# Altium footprint library LPSON_CON.PcbLib: 86 footprints (part 5 of 6)
Each footprint in its own frame and in the unit in brackets; x right, y up, seen from the top. Pads: shape width x height; smd on the part's side, far side on the other; paste and mask are expansions set on the pad; w line width, h text height; cw(c..) or ccw(c..) is an arc to the next point about the centre after c.
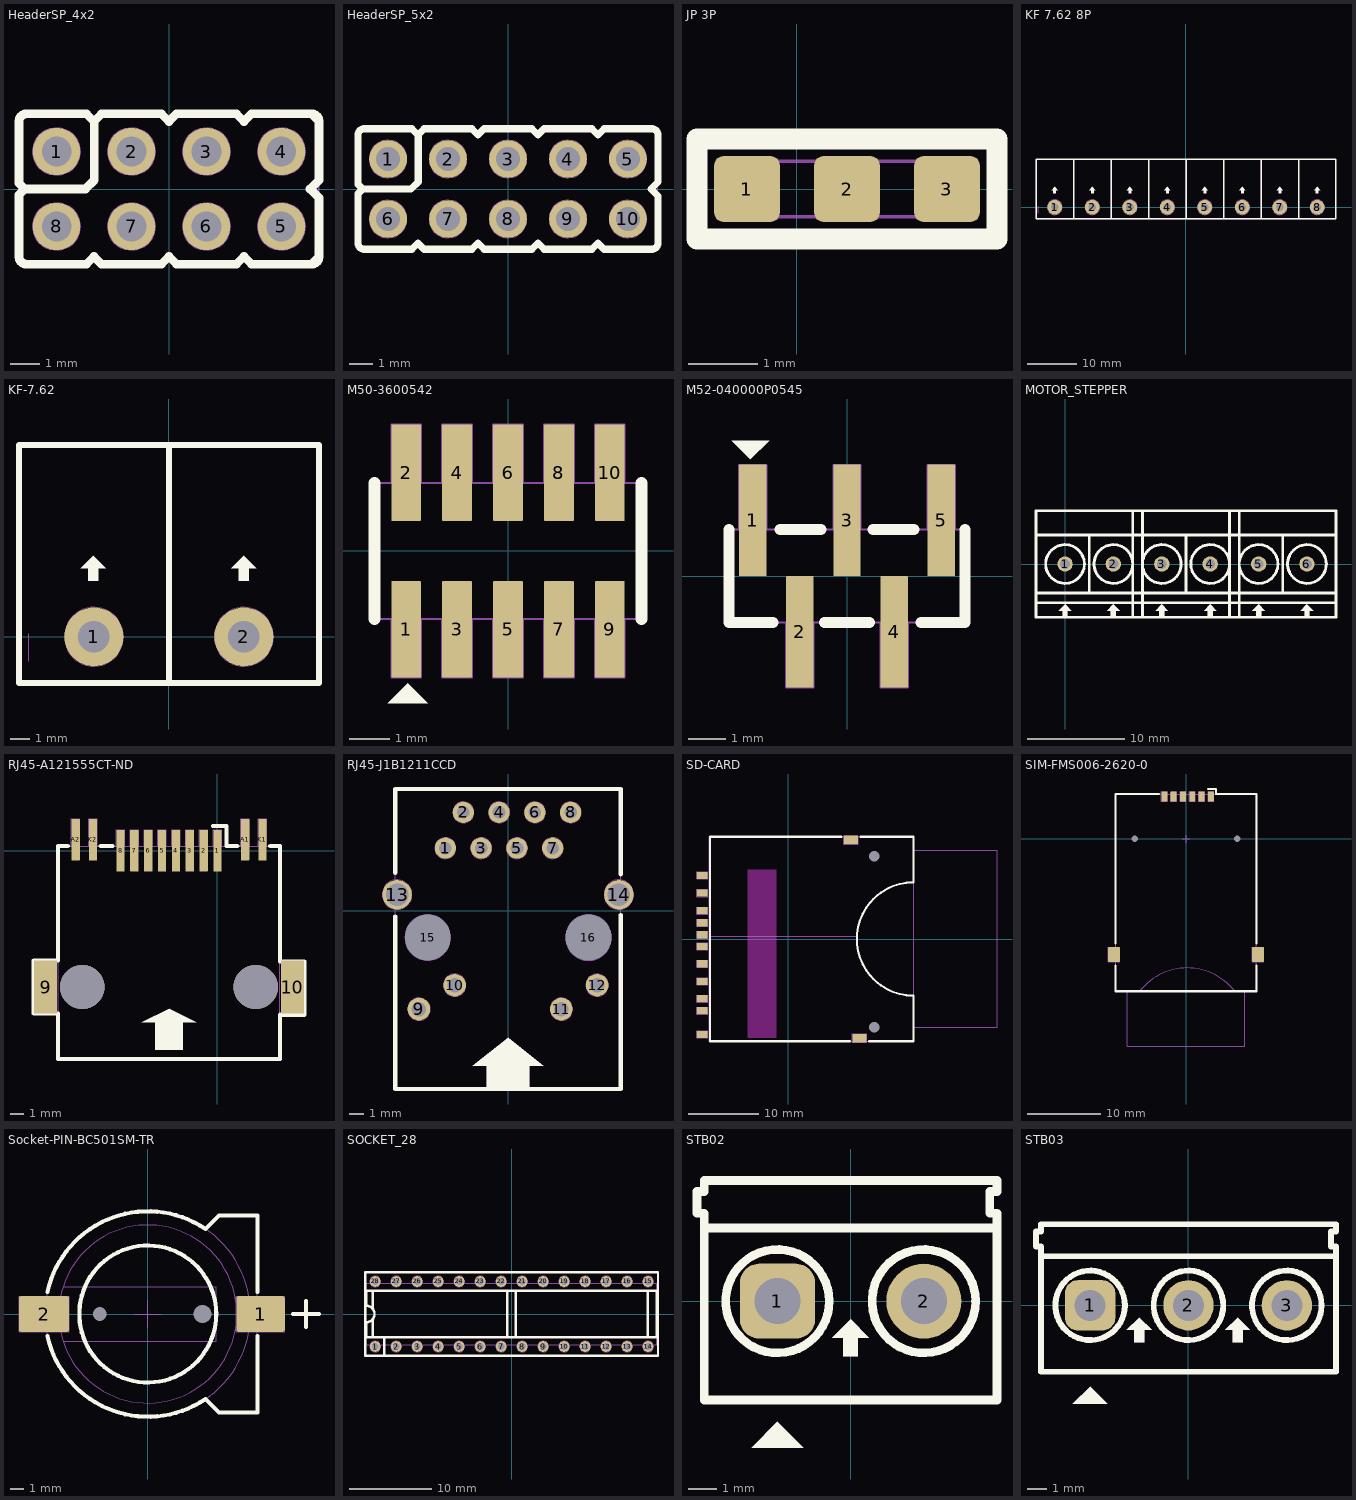
[diagram p4: the footprints below, top view; thin cyan lines are the x and y axes]

## HeaderSP_4x2 [mm] "Connector DIP FeMale, 2x4Pin_2.54mm"
height 5
pads (8):
  round 1.6 hole 1 mask+0.1: 1(-3.81,1.27) 2(-1.27,1.27) 3(1.27,1.27) 4(3.81,1.27) 5(3.81,-1.27) 6(1.27,-1.27) 7(-1.27,-1.27) 8(-3.81,-1.27)
Top Overlay:
  lines w0.3: -2.794,-2.55 -2.794,-2.54 ; -2.794,2.54 -2.54,2.286 -2.286,2.54 ; -2.794,2.55 -4.84,2.55 ccw(c-4.82,2.29) -5.08,2.27 -5.08,0.2 -4.88,0 ; -2.53,2.276 -2.53,0.3 -2.83,0 -4.88,0 ; -2.286,2.55 -0.254,2.55 ; 4.84,-2.55 ccw(c4.82,-2.29) 5.08,-2.27 ; 4.84,2.55 cw(c4.82,2.29) 5.08,2.27 5.08,0.3 4.78,0 5.08,-0.3 5.08,-2.2 ; 5.08,-2.296 5.08,-2.286 4.826,-2.54 4.826,-2.55 2.794,-2.55 2.794,-2.54 2.54,-2.286 2.286,-2.54 2.286,-2.55 0.254,-2.55 ; 5.08,2.286 4.826,2.54 4.826,2.55 2.794,2.55 2.54,2.296 ; -4.88,0 -5.08,-0.2 -5.08,-2.27 ccw(c-4.82,-2.29) -4.84,-2.55 -2.804,-2.55 -2.794,-2.54 ; -2.794,-2.54 -2.54,-2.286 -2.54,-2.296 -2.286,-2.55 -0.254,-2.55 ; -0.254,-2.55 -0.254,-2.54 ; -0.254,-2.55 -0.254,-2.54 ; -0.254,-2.54 0,-2.286 0.254,-2.54 ; -0.254,2.54 -0.254,2.55 ; -0.254,2.54 0,2.286 ; -0.254,2.54 0,2.286 ; -0.254,2.54 -0.254,2.55 ; 0,2.286 0,2.296 0.254,2.55 2.286,2.55 2.286,2.54 2.54,2.286 ; 0.254,-2.55 0.254,-2.54 ; 0.254,-2.55 0.254,-2.54 ; 2.54,2.286 2.54,2.296 ; 2.54,2.286 2.54,2.296
Mechanical 1:
  circle w0.05: c-3.81,-1.27 r0.8
  circle w0.05: c-1.27,-1.27 r0.8
  circle w0.05: c-1.27,1.27 r0.8
  circle w0.05: c-3.81,1.27 r0.8
  circle w0.05: c-1.27,1.27 r0.8
  circle w0.05: c-1.27,-1.27 r0.8
  circle w0.05: c1.27,1.27 r0.8
  circle w0.05: c1.27,-1.27 r0.8
  circle w0.05: c3.81,1.27 r0.8
  circle w0.05: c3.81,-1.27 r0.8
  lines w0.05: -2.794,-2.55 -2.794,-2.54 ; -2.794,2.54 -2.54,2.286 ; -2.794,2.55 -4.84,2.55 ccw(c-4.82,2.29) -5.08,2.27 -5.08,-2.27 ccw(c-4.82,-2.29) -4.84,-2.55 -2.804,-2.55 -2.794,-2.54 ; 0.254,2.54 0,2.286 ; 0.254,2.55 2.286,2.55 2.286,2.54 2.54,2.286 2.794,2.54 ; 2.794,2.55 4.826,2.55 4.826,2.54 ; 4.826,-2.54 4.826,-2.55 2.794,-2.55 2.54,-2.296 2.54,-2.286 2.286,-2.54 2.286,-2.55 0.254,-2.55 0,-2.296 0,-2.286 ; 4.84,-2.55 ccw(c4.82,-2.29) 5.08,-2.27 5.08,2.27 ccw(c4.82,2.29) 4.84,2.55 ; 5.08,-2.296 5.08,-2.286 ; -2.794,-2.54 -2.54,-2.286 ; -2.54,-2.296 -2.54,-2.286 ; -2.54,-2.296 -2.286,-2.55 ; -2.54,-2.296 -2.286,-2.55 ; -2.54,-2.296 -2.54,-2.286 ; -2.54,2.286 -2.286,2.54 -2.54,2.286 ; -2.286,-2.55 -0.254,-2.55 ; -2.286,-2.55 -0.254,-2.55 ; -0.254,-2.55 -0.254,-2.54 ; -0.254,-2.55 -0.254,-2.54 ; -0.254,-2.54 0,-2.286 ; -0.254,-2.54 0,-2.286 ; -0.254,2.54 0,2.286 ; -0.254,2.54 -0.254,2.55 ; -0.254,2.54 -0.254,2.55 ; -0.254,2.54 0,2.286 ; -0.254,2.55 -2.286,2.55 -0.254,2.55
  text "1" at -3.98,0.87 h1
  text "8" at -4.08,-1.75 h1
  text "4" at 3.47,0.8 h1
  text "5" at 3.57,-1.75 h1

## HeaderSP_5x2 [mm] "Connector DIP FeMale, 2x5Pin_2.54mm"
height 5
pads (10):
  round 1.6 hole 1 mask+0.1: 1(-5.08,1.27) 2(-2.54,1.27) 3(0,1.27) 4(2.54,1.27) 5(5.08,1.27) 6(-5.08,-1.27) 7(-2.54,-1.27) 8(0,-1.27) 9(2.54,-1.27) 10(5.08,-1.27)
Top Overlay:
  lines w0.3: -4.064,-2.55 -4.064,-2.54 ; -4.064,2.54 -3.81,2.286 -3.556,2.54 ; -4.064,2.55 -6.11,2.55 ccw(c-6.09,2.29) -6.35,2.27 -6.35,0.2 -6.15,0 ; -3.8,2.276 -3.8,0.3 -4.1,0 -6.15,0 ; -3.556,2.55 -1.524,2.55 ; 4.064,2.54 3.81,2.286 3.556,2.54 3.556,2.55 1.524,2.55 1.27,2.296 ; 4.064,2.55 6.096,2.55 ; 6.096,-2.55 4.064,-2.55 3.81,-2.296 3.81,-2.286 3.556,-2.54 3.556,-2.55 1.524,-2.55 1.524,-2.54 1.27,-2.286 1.016,-2.54 1.016,-2.55 -1.016,-2.55 ; 6.11,-2.55 ccw(c6.09,-2.29) 6.35,-2.27 ; 6.11,2.55 cw(c6.09,2.29) 6.35,2.27 6.35,0.3 6.05,0 6.35,-0.3 6.35,-2.2 ; -6.15,0 -6.35,-0.2 -6.35,-2.27 ccw(c-6.09,-2.29) -6.11,-2.55 -4.074,-2.55 -4.064,-2.54 ; -4.064,-2.54 -3.81,-2.286 -3.81,-2.296 -3.556,-2.55 -1.524,-2.55 ; -1.524,-2.55 -1.524,-2.54 ; -1.524,-2.55 -1.524,-2.54 ; -1.524,-2.54 -1.27,-2.286 -1.016,-2.54 ; -1.524,2.54 -1.524,2.55 ; -1.524,2.54 -1.27,2.286 ; -1.524,2.54 -1.27,2.286 ; -1.524,2.54 -1.524,2.55 ; -1.27,2.286 -1.27,2.296 -1.016,2.55 1.016,2.55 1.016,2.54 1.27,2.286 ; -1.016,-2.55 -1.016,-2.54 ; -1.016,-2.55 -1.016,-2.54 ; 1.27,2.286 1.27,2.296 ; 1.27,2.286 1.27,2.296
Mechanical 1:
  circle w0.05: c-5.08,-1.27 r0.8
  circle w0.05: c-2.54,-1.27 r0.8
  circle w0.05: c5.08,-1.27 r0.8
  circle w0.05: c5.08,1.27 r0.8
  circle w0.05: c-2.54,1.27 r0.8
  circle w0.05: c-5.08,1.27 r0.8
  circle w0.05: c-2.54,1.27 r0.8
  circle w0.05: c-2.54,-1.27 r0.8
  circle w0.05: c0,1.27 r0.8
  circle w0.05: c0,-1.27 r0.8
  circle w0.05: c2.54,1.27 r0.8
  circle w0.05: c2.54,-1.27 r0.8
  lines w0.05: -4.064,-2.55 -4.064,-2.54 ; -4.064,2.54 -3.81,2.286 ; -4.064,2.55 -6.11,2.55 ccw(c-6.09,2.29) -6.35,2.27 -6.35,-2.27 ccw(c-6.09,-2.29) -6.11,-2.55 -4.074,-2.55 -4.064,-2.54 ; -1.016,2.54 -1.27,2.286 ; -1.016,2.55 1.016,2.55 1.016,2.54 1.27,2.286 1.524,2.54 ; 1.524,2.55 3.556,2.55 3.556,2.54 3.81,2.286 4.064,2.54 ; 4.064,2.55 6.096,2.55 ; 6.096,-2.55 4.064,-2.55 3.81,-2.296 3.81,-2.286 3.556,-2.54 3.556,-2.55 1.524,-2.55 1.27,-2.296 1.27,-2.286 1.016,-2.54 1.016,-2.55 -1.016,-2.55 -1.27,-2.296 -1.27,-2.286 ; 6.11,-2.55 ccw(c6.09,-2.29) 6.35,-2.27 6.35,2.27 ccw(c6.09,2.29) 6.11,2.55 ; -4.064,-2.54 -3.81,-2.286 ; -3.81,-2.296 -3.81,-2.286 ; -3.81,-2.296 -3.556,-2.55 ; -3.81,-2.296 -3.556,-2.55 ; -3.81,-2.296 -3.81,-2.286 ; -3.81,2.286 -3.556,2.54 -3.81,2.286 ; -3.556,-2.55 -1.524,-2.55 ; -3.556,-2.55 -1.524,-2.55 ; -1.524,-2.55 -1.524,-2.54 ; -1.524,-2.55 -1.524,-2.54 ; -1.524,-2.54 -1.27,-2.286 ; -1.524,-2.54 -1.27,-2.286 ; -1.524,2.54 -1.27,2.286 ; -1.524,2.54 -1.524,2.55 ; -1.524,2.54 -1.524,2.55 ; -1.524,2.54 -1.27,2.286 ; -1.524,2.55 -3.556,2.55 -1.524,2.55
  text "6" at -5.25,-1.67 h1.2
  text "10" at 4.55,-1.67 h1.2
  text "5" at 4.8,0.9 h1.2
  text "1" at -5.25,0.87 h1.2

## JP 3P [mm]
pads (3):
  rrect25% 0.95x0.95 smd mask+0.1: 1(-0.725,0) 2(0.725,0) 3(2.175,0)
Top Overlay:
  lines w0.3: -1.45,0.725 -1.45,-0.725 2.9,-0.725 2.9,0.725 -1.435,0.725
Mechanical 2:
  lines w0.05: -0.8,-0.4 0.8,-0.4 0.8,0.4 -0.8,0.4 -0.8,-0.4 ; 0.65,-0.4 0.65,0.4 2.25,0.4 2.25,-0.4 0.65,-0.4
  text "1" at -0.69,-0.25 h0.5
  text "2" at 0.22,-0.25 h0.5
  text "3" at 1.82,-0.25 h0.5
  text "2" at 0.89,-0.25 h0.5
3D body "User Library-SMD RESISTOR-10603.STEP": height 0.48, standoff 0.02, extent -0.8,-0.4 0.8,0.4

## KF 7.62 8P [mm]
pads (8):
  round 3 hole 1.6 mask+0.1: 1(-26.645,0) 2(-19.025,0) 3(-11.405,0) 4(-3.795,0) 5(3.815,0) 6(11.425,0) 7(19.035,0) 8(26.645,0)
Top Overlay:
  region: -3.795,4.113 -4.43,3.478 -4.049,3.478 -4.049,2.843 -3.541,2.843 -3.541,3.478 -3.16,3.478
  region: -11.405,4.113 -12.04,3.478 -11.659,3.478 -11.659,2.843 -11.151,2.843 -11.151,3.478 -10.77,3.478
  region: -19.025,4.113 -19.66,3.478 -19.279,3.478 -19.279,2.843 -18.771,2.843 -18.771,3.478 -18.39,3.478
  region: -26.672,4.113 -27.307,3.478 -26.926,3.478 -26.926,2.843 -26.418,2.843 -26.418,3.478 -26.037,3.478
  region: 3.815,4.113 3.18,3.478 3.561,3.478 3.561,2.843 4.069,2.843 4.069,3.478 4.45,3.478
  region: 11.425,4.113 10.79,3.478 11.171,3.478 11.171,2.843 11.679,2.843 11.679,3.478 12.06,3.478
  region: 19.035,4.113 18.4,3.478 18.781,3.478 18.781,2.843 19.289,2.843 19.289,3.478 19.67,3.478
  region: 26.645,4.113 26.01,3.478 26.391,3.478 26.391,2.843 26.899,2.843 26.899,3.478 27.28,3.478
  lines w0.3: -22.825,-2.35 -22.825,9.75 ; -15.205,-2.35 -15.205,9.75 ; -7.595,-2.35 -7.595,9.75 ; 0.015,-2.35 0.015,9.75 ; 7.625,-2.35 7.625,9.75 ; 15.235,-2.35 15.235,9.75 ; 22.845,-2.35 22.845,9.75 ; -30.455,-2.35 -30.455,9.75 30.455,9.75 30.455,-2.35 -30.455,-2.35
Mechanical 2:
  circle w0.05: c-19.025,0 r1.5
  circle w0.05: c-11.405,0 r1.5
  circle w0.05: c-3.795,0 r1.5
  circle w0.05: c3.815,0 r1.5
  circle w0.05: c11.425,0 r1.5
  circle w0.05: c19.035,0 r1.5
  circle w0.05: c26.645,0 r1.5
  circle w0.05: c-26.645,0 r1.5
  lines w0.05: -22.835,-2.35 -22.835,9.75 ; -15.215,-2.35 -15.215,9.75 ; -7.595,-2.35 -7.595,9.75 ; 0.015,-2.35 0.015,9.75 ; 7.625,-2.35 7.625,9.75 ; 15.235,-2.35 15.235,9.75 ; 22.845,-2.35 22.845,9.75 ; -30.455,-2.35 -30.455,9.75 30.455,9.75 30.455,-2.35 -30.455,-2.35
  text "1" at -26.785,-0.35 h0.8
  text "2" at -19.235,-0.35 h0.8
  text "3" at -11.615,-0.35 h0.8
  text "4" at -4.005,-0.35 h0.8
  text "6" at 11.215,-0.35 h0.8
  text "7" at 18.825,-0.35 h0.8
  text "5" at 3.605,-0.35 h0.8
  text "8" at 26.435,-0.35 h0.8
Mechanical 13:
  lines w0.05: -29.955,-1.25 -29.955,0.15
3D body: height 0, standoff -2, extent -19.521,-0.499 -18.525,0.499
3D body: height 0, standoff -2, extent -11.901,-0.499 -10.905,0.499
3D body: height 0, standoff -2, extent 10.929,-0.499 11.925,0.499
3D body: height 0, standoff -2, extent 18.539,-0.499 19.535,0.499
3D body: height 10, standoff 0.1, extent -30.455,-2.35 -29.955,9.75
3D body: height 10, standoff 0.1, extent -23.335,-2.35 -22.835,9.75
3D body: height 10, standoff 0.1, extent -15.715,-2.35 -15.215,9.75
3D body: height 10, standoff 0.1, extent -15.215,-2.35 -14.715,9.75
3D body: height 10, standoff 0.1, extent -7.605,-2.35 -7.105,9.75
3D body: height 10, standoff 0.1, extent -8.095,-2.35 -7.595,9.75
3D body: height 10, standoff 0.1, extent 0.005,-2.35 0.505,9.75
3D body: height 10, standoff 0.1, extent 7.125,-2.35 7.625,9.75
3D body: height 10, standoff 0.1, extent 7.615,-2.35 8.115,9.75
3D body: height 10, standoff 0.1, extent 14.735,-2.35 15.235,9.75
3D body: height 10, standoff 0.1, extent 15.225,-2.35 15.725,9.75
3D body: height 10, standoff 0.1, extent 22.835,-2.35 23.335,9.75
3D body: height 10, standoff 0.1, extent 29.955,-2.35 30.455,9.75
3D body: height 0, standoff -2, extent -27.141,-0.499 -26.145,0.499
3D body: height 9.5, standoff 0.5, extent -13.405,1.7 -9.405,5.7
3D body: height 9.5, standoff 0.5, extent -5.795,1.7 -1.795,5.7
3D body: height 0, standoff -2, extent -4.291,-0.499 -3.295,0.499
3D body: height 0, standoff -2, extent 3.319,-0.499 4.315,0.499
3D body: height 9.5, standoff 0.5, extent 1.815,1.7 5.815,5.7
3D body: height 9.5, standoff 0.5, extent 9.425,1.7 13.425,5.7
3D body: height 9.5, standoff 0.5, extent 17.035,1.7 21.035,5.7
3D body: height 9.5, standoff 0.5, extent 24.645,1.7 28.645,5.7
3D body: height 0, standoff -2, extent 26.149,-0.499 27.145,0.499
3D body: height 10, standoff 0.1, extent -22.835,-2.35 -22.335,9.75
3D body: height 10, standoff 0.1, extent -0.485,-2.35 0.015,9.75
3D body: height 8, standoff 0.1, extent 8.115,-2.35 14.735,9.75
3D body: height 10, standoff 0.1, extent 22.345,-2.35 22.845,9.75
3D body: height 8, standoff 0.1, extent 15.725,-2.35 22.345,9.75
3D body: height 9.5, standoff 0.5, extent -21.025,1.7 -17.025,5.7
3D body: height 9.5, standoff 0.5, extent -28.645,1.7 -24.645,5.7
3D body: height 8, standoff 0.1, extent -7.105,-2.35 -0.485,9.75
3D body: height 8, standoff 0.1, extent -14.715,-2.35 -8.095,9.75
3D body: height 8, standoff 0.1, extent -22.335,-2.35 -15.715,9.75
3D body: height 8, standoff 0.1, extent 23.335,-2.35 29.955,9.75
3D body: height 8, standoff 0.1, extent -29.955,-2.35 -23.335,9.75
3D body: height 8, standoff 0.1, extent 0.505,-2.35 7.125,9.75

## KF-7.62 [mm]
height 12.5
pads (2):
  round 3 hole 1.6 mask+0.1: 1(-3.81,0) 2(3.81,0)
Top Overlay:
  region: -3.837,4.113 -4.472,3.478 -4.091,3.478 -4.091,2.843 -3.583,2.843 -3.583,3.478 -3.202,3.478
  region: 3.81,4.113 3.175,3.478 3.556,3.478 3.556,2.843 4.064,2.843 4.064,3.478 4.445,3.478
  lines w0.3: 0.01,-2.35 0.01,9.75 ; -7.62,-2.35 7.63,-2.35 7.63,9.75 -7.62,9.75 -7.62,-2.35
Mechanical 2:
  circle w0.05: c3.81,0 r1.5
  circle w0.05: c-3.81,0 r1.5
  circle w0.05: c-3.81,0 r1.5
  lines w0.05: 0,-2.35 0,9.75 ; -7.62,-2.35 7.62,-2.35 7.62,9.75 -7.62,9.75 -7.62,-2.35
  text "2" at 3.6,-0.35 h0.8
  text "1" at -3.95,-0.35 h0.8
  text "1" at -3.95,-0.35 h0.8
Mechanical 13:
  lines w0.05: -7.12,-1.25 -7.12,0.15
3D body: height 8, standoff 0.1, extent 0.5,-2.35 7.12,9.75
3D body: height 8, standoff 0.1, extent -7.12,-2.35 -0.5,9.75
3D body: height 10, standoff 0.1, extent -0.5,-2.35 0,9.75
3D body: height 0, standoff -2, extent 3.314,-0.499 4.31,0.499
3D body: height 9.5, standoff 0.5, extent 1.81,1.7 5.81,5.7
3D body: height 0, standoff -2, extent -4.306,-0.499 -3.31,0.499
3D body: height 0, standoff -2, extent -4.306,-0.499 -3.31,0.499
3D body: height 9.5, standoff 0.5, extent -5.81,1.7 -1.81,5.7
3D body: height 10, standoff 0.1, extent 7.12,-2.35 7.62,9.75
3D body: height 10, standoff 0.1, extent 0,-2.35 0.5,9.75
3D body: height 10, standoff 0.1, extent -7.62,-2.35 -7.12,9.75

## M50-3600542 [mm] "Male Header SMD, 5pin 2 rows, 1.27x1.27 pitch"
height 5.13
pads (10):
  rrect5% 0.74x2.4 smd mask+0.1: 1(-2.54,-1.95) 2(-2.54,1.95) 3(-1.27,-1.95) 4(-1.27,1.95) 5(0,-1.95) 6(0,1.95) 7(1.27,-1.95) 8(1.27,1.95) 9(2.54,-1.95) 10(2.54,1.95)
Top Overlay:
  region: -3,-3.8 -2.5,-3.3 -2,-3.8
  lines w0.3: -3.325,-1.7 -3.325,1.7 ; 3.325,-1.7 3.325,1.7
Mechanical 1:
  lines w0.05: -2.91,-1.7 -2.91,-3.15 -2.17,-3.15 -2.17,-1.7 ; -2.91,1.7 -2.91,3.15 -2.17,3.15 -2.17,1.7 ; -1.64,-1.7 -1.64,-3.15 -0.9,-3.15 -0.9,-1.7 ; -1.64,1.7 -1.64,3.15 -0.9,3.15 -0.9,1.7 ; -0.37,-1.7 -0.37,-3.15 0.37,-3.15 0.37,-1.7 ; -0.37,1.7 -0.37,3.15 0.37,3.15 0.37,1.7 ; 0.9,-1.7 0.9,-3.15 1.64,-3.15 1.64,-1.7 ; 0.9,1.7 0.9,3.15 1.64,3.15 1.64,1.7 ; 2.17,-1.7 2.17,-3.15 2.91,-3.15 2.91,-1.7 ; 2.17,1.7 2.17,3.15 2.91,3.15 2.91,1.7 ; -3.325,-1.7 -3.325,1.7 3.325,1.7 3.325,-1.7 -3.325,-1.7
  text "9" at 2.2,-1.5 h1
  text "10" at 1.7,0.6 h1
  text "2" at -2.8,0.4 h1
  text "1" at -2.7,-1.5 h1
  text "HD?" at 0,0 h1
3D body "pin_header_a-sl127-dg-g10mp1.stp": height 6.5, standoff 0.1, extent -3.175,-2.751 3.175,2.751

## M52-040000P0545 [mm] "Male Header SMD, pitch 1.27mm, 1 rows, 5 pin"
height 7.77
pads (5):
  rrect5% 0.74x3 smd mask+0.1: 1(-2.54,1.5) 2(-1.27,-1.5) 3(0,1.5) 4(1.27,-1.5) 5(2.54,1.5)
Top Overlay:
  region: -3.1,3.65 -2.6,3.15 -2.1,3.65
  lines w0.3: -3.175,1.25 -3.175,-1.25 -2,-1.25 ; -1.8,1.25 -0.7,1.25 ; -0.6,-1.25 0.6,-1.25 ; 0.7,1.25 1.8,1.25 ; 2,-1.25 3.175,-1.25 3.175,1.25
Mechanical 1:
  lines w0.05: -2.91,1.25 -2.91,3 -2.17,3 -2.17,1.25 ; -1.64,-1.25 -1.64,-3 -0.9,-3 -0.9,-1.25 ; -0.37,1.25 -0.37,3 0.37,3 0.37,1.25 ; 0.9,-1.25 0.9,-3 1.64,-3 1.64,-1.25 ; 2.17,1.25 2.17,3 2.91,3 2.91,1.25 ; -3.175,-1.25 3.175,-1.25 3.175,1.25 -3.175,1.25 -3.175,-1.25
  text "HD?" at 0,0 h1
  text "5" at 2.3,0.1 h1
  text "4" at 0.9,-1 h1
  text "2" at -1.6,-1 h1
  text "1" at -2.6,0.2 h1
3D body "pin_header_a-sl127-eg-g05mp1.stp": height 6.5, standoff 0.05, extent -3.175,-2.25 3.175,2.25

## MOTOR_STEPPER [mm] "10A PIN TO PIN 5mm 11mmx11mm"
pads (6):
  round 1.6 hole 1 mask+0.1: 1(0,0) 2(5,0) 3(10,0) 4(15,0) 5(20,0) 6(25,0)
Top Overlay:
  circle w0.3: c20,0 r2
  circle w0.3: c25,0 r2
  circle w0.3: c10,0 r2
  circle w0.3: c15,0 r2
  circle w0.3: c5,0 r2
  circle w0.3: c0,0 r2
  region: 20,-4.171 19.365,-4.806 19.746,-4.806 19.746,-5.441 20.254,-5.441 20.254,-4.806 20.635,-4.806
  region: 25,-4.171 24.365,-4.806 24.746,-4.806 24.746,-5.441 25.254,-5.441 25.254,-4.806 25.635,-4.806
  region: 10,-4.171 9.365,-4.806 9.746,-4.806 9.746,-5.441 10.254,-5.441 10.254,-4.806 10.635,-4.806
  region: 15,-4.171 14.365,-4.806 14.746,-4.806 14.746,-5.441 15.254,-5.441 15.254,-4.806 15.635,-4.806
  region: 5,-4.171 4.365,-4.806 4.746,-4.806 4.746,-5.441 5.254,-5.441 5.254,-4.806 5.635,-4.806
  region: 0,-4.171 -0.635,-4.806 -0.254,-4.806 -0.254,-5.441 0.254,-5.441 0.254,-4.806 0.635,-4.806
  lines w0.3: -3,-4 8,-4 ; -3,-3 8,-3 ; -3,3 8,3 ; 2.5,-3 2.5,3 ; 7,-4 18,-4 ; 7,-3 18,-3 ; 7,3 18,3 ; 12.5,-3 12.5,3 ; 17,-4 28,-4 ; 17,-3 28,-3 ; 17,3 28,3 ; 22.5,-3 22.5,3 ; -3,-5.5 -3,5.5 8,5.5 8,-5.5 -3,-5.5 ; 7,-5.5 18,-5.5 18,5.5 7,5.5 7,-5.5 ; 17,-5.5 28,-5.5 28,5.5 17,5.5 17,-5.5
Mechanical 1:
  circle w0.05: c20,0 r2
  circle w0.05: c25,0 r2
  circle w0.05: c10,0 r2
  circle w0.05: c15,0 r2
  circle w0.05: c5,0 r2
  circle w0.05: c0,0 r2
  region: 20,-4.171 19.365,-4.806 19.746,-4.806 19.746,-5.441 20.254,-5.441 20.254,-4.806 20.635,-4.806
  region: 25,-4.171 24.365,-4.806 24.746,-4.806 24.746,-5.441 25.254,-5.441 25.254,-4.806 25.635,-4.806
  region: 10,-4.171 9.365,-4.806 9.746,-4.806 9.746,-5.441 10.254,-5.441 10.254,-4.806 10.635,-4.806
  region: 15,-4.171 14.365,-4.806 14.746,-4.806 14.746,-5.441 15.254,-5.441 15.254,-4.806 15.635,-4.806
  region: 5,-4.171 4.365,-4.806 4.746,-4.806 4.746,-5.441 5.254,-5.441 5.254,-4.806 5.635,-4.806
  region: 0,-4.171 -0.635,-4.806 -0.254,-4.806 -0.254,-5.441 0.254,-5.441 0.254,-4.806 0.635,-4.806
  lines w0.05: -3,-4 8,-4 ; -3,-3 8,-3 ; -3,3 8,3 ; 2.5,-3 2.5,3 ; 7,-4 18,-4 ; 7,-3 18,-3 ; 7,3 18,3 ; 12.5,-3 12.5,3 ; 17,-4 28,-4 ; 17,-3 28,-3 ; 17,3 28,3 ; 22.5,-3 22.5,3 ; -3,-5.5 -3,5.5 8,5.5 8,-5.5 -3,-5.5 ; 7,-5.5 18,-5.5 18,5.5 7,5.5 7,-5.5 ; 17,-5.5 28,-5.5 28,5.5 17,5.5 17,-5.5
3D body "STB01.step": height 12.5, standoff -4.4, extent 21.94,-4.047 27.62,4.953
3D body "STB01.step": height 12.5, standoff -4.4, extent 16.86,-4.047 22.54,4.953
3D body "STB01.step": height 12.5, standoff -4.4, extent 11.94,-4.047 17.62,4.953
3D body "STB01.step": height 12.5, standoff -4.4, extent 6.86,-4.047 12.54,4.953
3D body "STB01.step": height 12.5, standoff -4.4, extent -3.14,-4.047 2.54,4.953
3D body "STB01.step": height 12.5, standoff -4.4, extent 1.94,-4.047 7.62,4.953

## RJ45-A121555CT-ND [mm] "CONN MOD JACK 8P8C R/A SHIELDED"
height 14.66
pads (14):
  rrect10% 0.61x3.05 smd mask+0.1: 1(0,0) 2(-1.016,0) 3(-2.032,0) 4(-3.048,0) 5(-4.064,0) 6(-5.08,0) 7(-6.096,0) 8(-7.112,0) A1(2.024,0.8) A2(-10.406,0.8) K1(3.294,0.8) K2(-9.136,0.8)
  rrect10% 1.7x3.9 smd: 9(-12.606,-10) 10(5.494,-10)
via -9.906,-10 diameter 3.25 hole 3.25
via 2.794,-10 diameter 3.25 hole 3.25
via -9.906,-10 diameter 3.25 hole 3.25
Top Overlay:
  region: -3.556,-11.6 -5.556,-12.6 -1.556,-12.6
  region: -4.556,-12.6 -4.556,-14.6 -2.556,-14.6 -2.556,-12.6
  lines w0.05: 0.58,1.8 0.674,1.8
  lines w0.3: -10.98,0.34 -11.686,0.34 -11.686,-8.05 -13.476,-8.05 -13.476,-11.95 -11.686,-11.95 -11.686,-15.28 4.574,-15.28 4.574,-12.03 6.364,-12.03 6.364,-8.13 4.574,-8.13 4.574,0.34 3.87,0.34 ; -8.56,0.34 -7.69,0.34 ; -0.34,1.8 0.674,1.8 0.674,0.34 1.45,0.34
Mechanical 2:
  lines w0.05: -10.711,0.34 -10.711,2.325 -10.101,2.325 -10.101,0.34 ; -9.441,0.34 -9.441,2.325 -8.831,2.325 -8.831,0.34 ; -7.417,0.34 -7.417,1.525 -6.807,1.525 -6.807,0.34 ; -6.401,0.34 -6.401,1.525 -5.791,1.525 -5.791,0.34 ; -5.385,0.34 -5.385,1.525 -4.775,1.525 -4.775,0.34 ; -4.369,0.34 -4.369,1.525 -3.759,1.525 -3.759,0.34 ; -3.353,0.34 -3.353,1.525 -2.743,1.525 -2.743,0.34 ; -2.337,0.34 -2.337,1.525 -1.727,1.525 -1.727,0.34 ; -1.321,0.34 -1.321,1.525 -0.711,1.525 -0.711,0.34 ; -0.305,0.34 -0.305,1.525 0.305,1.525 0.305,0.34 ; 1.719,0.34 1.719,2.325 2.329,2.325 2.329,0.34 ; 2.989,0.34 2.989,2.325 3.599,2.325 3.599,0.34 ; -11.686,-11.95 -11.686,-15.28 4.574,-15.28 4.574,-12.03 ; -11.686,-11.95 -11.686,-8.05 ; -11.686,-11.95 -13.476,-11.95 -13.476,-8.05 -11.686,-8.05 ; -11.686,-8.05 -11.686,0.34 4.574,0.34 4.574,-8.13 ; 4.574,-12.03 4.574,-8.13 ; 4.574,-12.03 6.364,-12.03 6.364,-8.13 4.574,-8.13
  text "-" at -9.691,-1 h1.2
  text "-" at 2.989,-1 h1.2
  text "8" at -7.526,-1 h1.2
  text "+" at -10.961,-1 h1.2
  text "+" at 1.719,-1 h1.2
  text "1" at -0.226,-1 h1.2
3D body "ACC-M-RJCSE-5380-01-REVT1.step": height 14.62, standoff -1.42, extent -13.056,-15.28 5.804,1.255

## RJ45-J1B1211CCD [mm] "J1B1211CCD1 Port RJ45 Magjack Connector Through Hole 10/100 Base-T, AutoMDIX"
pads (16):
  round 1.5 hole 0.9: 1(-4.445,4.445) 2(-3.175,6.985) 3(-1.905,4.445) 4(-0.635,6.985) 5(0.635,4.445) 6(1.905,6.985) 7(3.175,4.445) 8(4.445,6.985)
  round 1.6 hole 1.02: 9(-6.325,-6.985) 10(-3.785,-5.285) 11(3.785,-6.985) 12(6.325,-5.285)
  round 2.1 hole 1.6: 13(-7.875,1.145) 14(7.875,1.145)
  round 1.3 hole 3.25: 15(-5.7,-1.9) 16(5.715,-1.905)
Top Overlay:
  region: -1.5,-12.655 -1.5,-11 1.5,-11 1.5,-12.655
  region: -2.5,-11 0,-9 2.5,-11
  lines w0.3: -8,-0.4 -8,-12.655 8,-12.655 8,-0.3 ; -8,2.7 -8,8.645 8,8.645 8,2.6
Mechanical 2:
  circle w0.05: c6.325,-5.285 r0.8
  circle w0.05: c3.785,-6.985 r0.8
  circle w0.05: c-3.785,-5.285 r0.8
  circle w0.05: c5.715,-1.905 r1.625
  circle w0.05: c-3.175,6.985 r0.75
  circle w0.05: c-0.635,6.985 r0.75
  circle w0.05: c1.905,6.985 r0.75
  circle w0.05: c4.445,6.985 r0.75
  circle w0.05: c3.175,4.445 r0.75
  circle w0.05: c0.635,4.445 r0.75
  circle w0.05: c-1.905,4.445 r0.75
  circle w0.05: c7.875,1.145 r1.05
  circle w0.05: c-4.445,4.445 r0.75
  circle w0.05: c-7.875,1.145 r1.05
  circle w0.05: c-5.7,-1.9 r1.625
  circle w0.05: c-6.325,-6.985 r0.8
  region: -1.5,-12.655 -1.5,-11 1.5,-11 1.5,-12.655
  region: -2.5,-11 0,-9 2.5,-11
  lines w0.05: -8,-12.655 -8,8.645 8,8.645 8,-12.655 -8,-12.655
  text "9" at -6.6,-7.4 h0.8
  text "12" at 5.8,-5.7 h0.8
  text "11" at 3.4,-7.5 h0.8
  text "10" at -4.3,-5.7 h0.8
  text "8" at 4.3,6.6 h0.8
  text "7" at 3,4 h0.8
  text "2" at -3.4,6.6 h0.8
  text "1" at -4.5,4.1 h0.8
3D body "User Library-J1B1211CCD.STEP": height 14.36, standoff -3.95, extent -8.909,-12.75 9.109,8.55
3D body "User Library-J1B1211CCD.STEP": height 14.36, standoff -3.95, extent -9.009,-12.55 9.009,8.75

## SD-CARD [mm]
height 2.7
pads (15):
  rrect10% 1.5x1 smd mask+0.1: 1(-12.155,6.5) 2(-12.155,4) 3(-12.155,0.6) 4(-12.155,-1.05) 5(-12.155,-3.5) 6(-12.155,-6) 7(-12.155,-8.43) 8(-12.155,-10.13) 9(-12.155,9) CD(-12.155,2.3)
  rrect10% 2x1.2 smd mask+0.1: GND1(10.055,-14) GND2(8.855,14)
  round 0 hole 1.5 mask+0.1: HOLE(12.155,-12.45) HOLE1(12.155,11.7)
  rrect10% 1.5x1 smd: WP(-12.155,-13.48)
Top Overlay:
  lines w0.3: 7.545,14.45 -11.055,14.45 -11.055,-14.45 8.695,-14.45 ; 10.195,14.45 17.697,14.45 17.697,8.006 ccw(c17.697,0) 17.697,-8.006 17.697,-14.45 11.395,-14.45
Keep-Out Layer:
  rectangle: -5.745,-14 -1.645,9.8
Mechanical 1:
  lines w0.05: -11.203,0.4 9.695,0.4 ; 17.697,-12.48 29.497,-12.48 29.497,12.52 17.697,12.52 ; 17.697,-8.006 cw(c17.697,0) 17.697,8.006 ; -12.905,-13.98 -12.905,-12.98 -11.405,-12.98 -11.405,-13.98 -12.905,-13.98 ; -12.905,-10.63 -11.405,-10.63 -11.405,-9.63 -12.905,-9.63 -12.905,-10.63 ; -12.905,-8.93 -11.405,-8.93 -11.405,-7.93 -12.905,-7.93 -12.905,-8.93 ; -12.905,-6.5 -11.405,-6.5 -11.405,-5.5 -12.905,-5.5 -12.905,-6.5 ; -12.905,-4 -11.405,-4 -11.405,-3 -12.905,-3 -12.905,-4 ; -12.905,-1.55 -11.405,-1.55 -11.405,-0.55 -12.905,-0.55 -12.905,-1.55 ; -12.905,0.1 -11.405,0.1 -11.405,1.1 -12.905,1.1 -12.905,0.1 ; -12.905,1.8 -11.405,1.8 -11.405,2.8 -12.905,2.8 -12.905,1.8 ; -12.905,3.5 -11.405,3.5 -11.405,4.5 -12.905,4.5 -12.905,3.5 ; -12.905,6 -11.405,6 -11.405,7 -12.905,7 -12.905,6 ; -12.905,8.5 -11.405,8.5 -11.405,9.5 -12.905,9.5 -12.905,8.5 ; -11.203,-14.45 -11.203,14.45 17.697,14.45 17.697,-14.45 -11.203,-14.45 ; 7.855,13.4 7.855,14.6 9.855,14.6 9.855,13.4 7.855,13.4 ; 9.055,-14.6 11.055,-14.6 11.055,-13.4 9.055,-13.4 9.055,-14.6
  text "D1" at -10.655,-10.6 h1
  text "D0" at -10.655,-8.9 h1
  text "VSS2" at -10.655,-6.5 h1
  text "CLK" at -10.655,-4 h1
  text "VDD" at -10.655,-1.55 h1
  text "VSS1" at -10.655,0.15 h1
  text "CMD" at -10.655,3.5 h1
  text "D3" at -10.655,6 h1
  text "D2" at -10.655,8.5 h1

## SIM-FMS006-2620-0 [mm] "KHE SIM"
height 1.85
pads (10):
  rrect10% 0.8x1.35 smd mask+0.1: 1(3.4,5.775) 2(0.86,5.775) 3(-1.68,5.775) 5(2.13,5.775) 6(-0.41,5.775) 7(-2.95,5.775)
  rrect10% 0x0 hole 0.9 mask+0.1: HOLE1(-7,0) HOLE2(7,0)
  rrect10% 1.6x2 smd mask+0.1: PAD1(-9.8,-15.75) PAD2(9.8,-15.75)
Top Overlay:
  lines w0.3: -9.6,-17.25 -9.6,-20.75 9.6,-20.75 9.6,-17.25 ; -9.6,-14.25 -9.6,-0.613 -9.6,6.1 -3.7,6.1 ; 3,6.8 4.1,6.8 4.1,6.1 9.6,6.1 9.6,-0.613 9.6,-14.25
Mechanical 1:
  lines w0.05: -8,-20.75 -8,-28.25 8,-28.25 8,-20.75 ; -6.302,-20.72 cw(c0.169,-25.831) 6.639,-20.719 ; -0.5,0 0.5,0 ; 0,-0.5 0,0.5 ; 10.6,-16.75 10.6,-14.75 ; 10.6,-16.75 9,-16.75 9,-14.75 10.6,-14.75 ; 10.6,-16.75 10.6,-14.75 ; -10.6,-16.75 -10.6,-14.75 -9,-14.75 -9,-16.75 -10.6,-16.75 ; -9.6,-20.75 -9.6,6.1 9.6,6.1 9.6,-20.75 -9.6,-20.75 ; -3.35,5.1 -2.55,5.1 -2.55,6.45 -3.35,6.45 -3.35,5.1 ; -2.08,5.1 -1.28,5.1 -1.28,6.45 -2.08,6.45 -2.08,5.1 ; -0.81,5.1 -0.01,5.1 -0.01,6.45 -0.81,6.45 -0.81,5.1 ; 0.46,5.1 1.26,5.1 1.26,6.45 0.46,6.45 0.46,5.1 ; 1.73,5.1 2.53,5.1 2.53,6.45 1.73,6.45 1.73,5.1 ; 3,5.1 3,6.45 3.8,6.45 3.8,5.1 3,5.1
  text "1" at 3.5,3.5 h1
  text "5" at 2.1,3.5 h1
  text "2" at 0.7,3.5 h1
  text "6" at -0.7,3.5 h1
  text "3" at -2.1,3.5 h1
  text "7" at -3.5,3.5 h1
  text "J?" at 0,0 h1

## Socket-PIN-BC501SM-TR [mm] "coin cell holder for CR1220"
height 4.94
pads (4):
  rrect10% 3.54x2.6 smd mask+0.1: 1(8.23,0)
  rrect10% 3.66x2.6 smd mask+0.1: 2(-7.57,0)
  round 0 hole 1 mask+0.1: hole1(-3.5,0)
  round 0 hole 1.3 mask+0.1: hole2(4,0)
Top Overlay:
  circle w0.3: c0,0 r5
  lines w0.3: -7.326,-1.606 ccw(c0,0) 4.206,-6.209 ; -7.326,1.606 cw(c0,0) 4.206,6.209 ; 4.208,-6.208 5.2,-7.2 8,-7.2 8,-1.6 ; 4.208,6.208 5.2,7.2 8,7.2 8,1.6 ; 10.6,0 12.5,0 ; 11.55,-0.95 11.55,0.95
Mechanical 1:
  lines w0.05: -6.15,-2 5,-2 5,2 -6.15,2 ; -1,0 1,0 ; 0,-1 0,1 ; 4.2,-6.2 5.2,-7.2 8,-7.2 8,7.2 5.2,7.2 4.2,6.2 ; 6.451,-0.799 cw(c0,0) 6.462,0.7 ; 7.384,-1.313 cw(c0,0) 7.384,1.313 ; -9.4,-1.3 -9.4,1.3 -5.74,1.3 -5.74,-1.3 -9.4,-1.3 ; 6.46,-1.3 6.46,1.3 10,1.3 10,-1.3 6.46,-1.3

## SOCKET_28 [mm] "DIP 28, w7.62, PIN TO PIN 2.54"
height 4.06
pads (28):
  round 1.3 hole 0.8: 1(-16.51,-3.935) 2(-13.97,-3.935) 3(-11.43,-3.935) 4(-8.89,-3.935) 5(-6.35,-3.935) 6(-3.81,-3.935) 7(-1.27,-3.935) 8(1.27,-3.935) 9(3.81,-3.935) 10(6.35,-3.935) 11(8.89,-3.935) 12(11.43,-3.935) 13(13.97,-3.935) 14(16.51,-3.935) 15(16.51,3.935) 16(13.97,3.935) 17(11.43,3.935) 18(8.89,3.935) 19(6.35,3.935) 20(3.81,3.935) 21(1.27,3.935) 22(-1.27,3.935) 23(-3.81,3.935) 24(-6.35,3.935) 25(-8.89,3.935) 26(-11.43,3.935) 27(-13.97,3.935) 28(-16.51,3.935)
Top Overlay:
  lines w0.3: -16.8,-2.81 -16.8,-0.6 ; -16.8,0.6 -16.8,2.79 ; -15.41,-5.08 -15.41,-2.81 ; -0.5,-2.81 -0.5,2.79 ; 0.5,-2.81 0.5,2.79 ; 16.5,-2.81 16.5,2.79 ; -17.715,-5.08 -17.715,5.08 17.715,5.08 17.715,-5.08 -17.715,-5.08 ; -17.59,-2.81 -17.59,-1 ccw(c-17.59,0) -17.59,1 -17.59,2.79 17.59,2.79 17.59,-2.81 -17.59,-2.81
Mechanical 1:
  circle w0.05: c-13.97,-3.935 r0.65
  circle w0.05: c-11.43,-3.935 r0.65
  circle w0.05: c-8.89,-3.935 r0.65
  circle w0.05: c-6.35,-3.935 r0.65
  circle w0.05: c-3.81,-3.935 r0.65
  circle w0.05: c-1.27,-3.935 r0.65
  circle w0.05: c1.27,-3.935 r0.65
  circle w0.05: c3.81,-3.935 r0.65
  circle w0.05: c6.35,-3.935 r0.65
  circle w0.05: c8.89,-3.935 r0.65
  circle w0.05: c11.43,-3.935 r0.65
  circle w0.05: c13.97,-3.935 r0.65
  circle w0.05: c16.51,-3.935 r0.65
  circle w0.05: c-16.51,-3.935 r0.65
  circle w0.05: c-16.51,3.935 r0.65
  circle w0.05: c-13.97,3.935 r0.65
  circle w0.05: c-11.43,3.935 r0.65
  circle w0.05: c-8.89,3.935 r0.65
  circle w0.05: c-6.35,3.935 r0.65
  circle w0.05: c-3.81,3.935 r0.65
  circle w0.05: c-1.27,3.935 r0.65
  circle w0.05: c1.27,3.935 r0.65
  circle w0.05: c3.81,3.935 r0.65
  circle w0.05: c6.35,3.935 r0.65
  circle w0.05: c8.89,3.935 r0.65
  circle w0.05: c11.43,3.935 r0.65
  circle w0.05: c13.97,3.935 r0.65
  circle w0.05: c16.51,3.935 r0.65
  lines w0.05: -17.59,-1 ccw(c-17.59,0) -17.59,1 ; -17.715,-5.08 -17.715,5.08 17.715,5.08 17.715,-5.08 -17.715,-5.08 ; -17.59,-3.745 17.59,-3.745 17.59,3.745 -17.59,3.745 -17.59,-3.745
  text "1" at -16.6,-3 h1.2
  text "14" at 15.6,-3 h1.2
  text "15" at 15.4,1.8 h1.2
  text "28" at -17,1.7 h1.2
3D body "User Library-DIP28-300.step": height 9.08, standoff 1.51, extent -17.91,-3.845 18.09,4.025
3D body "10221.stp": height 5, standoff -3.1, extent -17.78,-5 17.78,5

## STB02 [mm] "Connector; Screw Terminal block; 2 Position; Blue"
height 10
pads (2):
  rrect50% 2.6x2.6 hole 1.6: 1(-2.54,0)
  round 2.6 hole 1.6: 2(2.54,0)
Top Overlay:
  circle w0.3: c2.54,0 r1.796
  circle w0.3: c-2.54,0 r1.796
  region: 0,-0.635 -0.635,-1.27 -0.254,-1.27 -0.254,-1.905 0.254,-1.905 0.254,-1.27 0.635,-1.27
  region: -2.54,-4.191 -3.429,-5.08 -1.651,-5.08
  lines w0.3: -5.08,2.54 5.08,2.54 ; 5.08,2.54 5.08,3.048 4.826,3.048 4.826,3.81 5.08,3.81 5.08,4.191 -5.08,4.191 -5.08,3.81 -5.334,3.81 -5.334,3.048 -5.08,3.048 -5.08,-3.429 5.08,-3.429 5.08,2.54
Mechanical 1:
  circle w0.05: c2.54,0 r1.796
  circle w0.05: c-2.54,0 r1.796
  region: -2.54,-4.191 -3.429,-5.08 -1.651,-5.08
  region: 0,-0.635 -0.635,-1.27 -0.254,-1.27 -0.254,-1.905 0.254,-1.905 0.254,-1.27 0.635,-1.27
  lines w0.05: -5.08,2.54 5.08,2.54 ; 5.08,2.54 5.08,-3.429 -5.08,-3.429 -5.08,3.048 -5.334,3.048 -5.334,3.81 -5.08,3.81 -5.08,4.191 5.08,4.191 5.08,3.81 4.826,3.81 4.826,3.048 5.08,3.048 5.08,2.54
3D body "STB01.step": height 12.5, standoff -4.4, extent -0.6,-4.047 5.08,4.953
3D body "STB01.step": height 12.5, standoff -4.4, extent -5.68,-4.047 0,4.953

## STB03 [mm] "Connector; Screw Terminal block; 3 Position; Blue"
height 10
pads (3):
  rrect50% 2.6x2.6 hole 1.6: 1(-5.08,0)
  round 2.6 hole 1.6: 2(0,0) 3(5.08,0)
Top Overlay:
  circle w0.3: c5.08,0 r1.796
  circle w0.3: c-5.08,0 r1.796
  circle w0.3: c0,0 r1.796
  region: 2.54,-0.635 1.905,-1.27 2.286,-1.27 2.286,-1.905 2.794,-1.905 2.794,-1.27 3.175,-1.27
  region: -5.08,-4.191 -5.969,-5.08 -4.191,-5.08
  region: -2.54,-0.635 -3.175,-1.27 -2.794,-1.27 -2.794,-1.905 -2.286,-1.905 -2.286,-1.27 -1.905,-1.27
  lines w0.3: -7.62,2.54 7.62,2.54 ; 7.62,2.54 7.62,-3.429 -7.62,-3.429 -7.62,3.048 -7.874,3.048 -7.874,3.81 -7.62,3.81 -7.62,4.191 7.62,4.191 7.62,3.81 7.366,3.81 7.366,3.048 7.62,3.048 7.62,2.54
Mechanical 1:
  circle w0.05: c5.08,0 r1.796
  circle w0.05: c0,0 r1.796
  circle w0.05: c-5.08,0 r1.796
  region: -5.08,-4.191 -5.969,-5.08 -4.191,-5.08
  region: 2.54,-0.635 1.905,-1.27 2.286,-1.27 2.286,-1.905 2.794,-1.905 2.794,-1.27 3.175,-1.27
  region: -2.54,-0.635 -3.175,-1.27 -2.794,-1.27 -2.794,-1.905 -2.286,-1.905 -2.286,-1.27 -1.905,-1.27
  lines w0.05: -7.62,2.54 7.62,2.54 ; 7.62,2.54 7.62,3.048 7.366,3.048 7.366,3.81 7.62,3.81 7.62,4.191 -7.62,4.191 -7.62,3.81 -7.874,3.81 -7.874,3.048 -7.62,3.048 -7.62,-3.429 7.62,-3.429 7.62,2.54
3D body "STB01.step": height 12.5, standoff -4.4, extent 1.94,-4.047 7.62,4.953
3D body "STB01.step": height 12.5, standoff -4.4, extent -3.14,-4.047 2.54,4.953
3D body "STB01.step": height 12.5, standoff -4.4, extent -8.22,-4.047 -2.54,4.953